# Altium schematic symbol library SCH - POWER - LINEAR VREG - TI TPS7B6333-Q1PWP.SchLib: 1 symbol
Pins are listed as number, name and electrical type; pins without a type are passive.

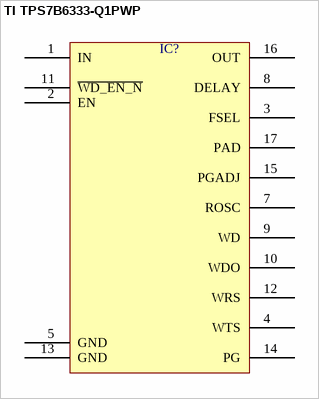
[diagram p0: symbol TI TPS7B6333-Q1PWP]

## TI TPS7B6333-Q1PWP
designator IC?  (value not drawn)
pins: 1 IN, 2 EN, 3 FSEL, 4 WTS, 5 GND, 7 ROSC, 8 DELAY, 9 WD, 10 WDO, 11 ~{WD_EN_N}, 12 WRS, 13 GND, 14 PG, 15 PGADJ, 16 OUT, 17 PAD